# EAGLE library part GPS (library Adafruit Ultimate GPS Breakout)
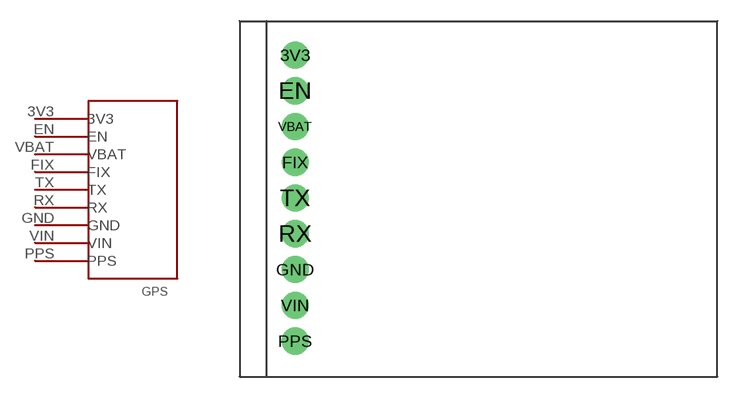
[diagram p0: symbol with the pads of GPS; footprint GPS]

Designator prefix -

## GPS  [GPS]
3V3  3V3
EN  EN
FIX  FIX
GND  GND
PPS  PPS
RX  RX
TX  TX
VBAT  VBAT
VIN  VIN

## Footprint GPS (pad centres in mm)
drill 1 pad 1.93: 3V3 -12.7,12.7; EN -12.7,10.16; FIX -12.7,5.08; GND -12.7,-2.54; PPS -12.7,-7.62; RX -12.7,0; TX -12.7,2.54; VBAT -12.7,7.62; VIN -12.7,-5.08